# EAGLE library part LF411 (library EW_IC_Op_Amps)
Operational Amplifier Wideband, Low Distortion
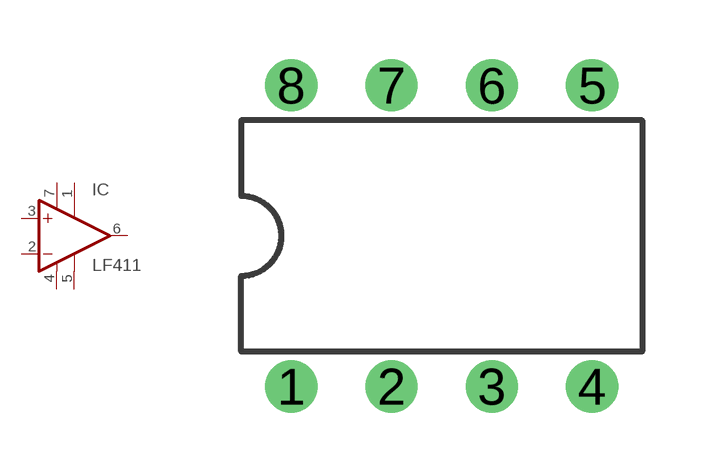
[diagram p36: symbol with the pads of DIL08; footprint DIL08]

Designator prefix IC

## LF411P (DIGI-KEY: 296-26079-5-ND; FARNELL: 3004597; MF: LF411CP; MPN: LF411CP)  [DIL08]
1  +VS2  pwr
2  -IN  in
3  +IN  in
4  -VS1  pwr
5  -VS2  pwr
6  OUT  out
7  +VS1  pwr

## Footprint DIL08 (pad centres in mm)
Dual In Line Package
drill 0.813 pad 1.27: 1 -3.81,-3.81; 2 -1.27,-3.81; 3 1.27,-3.81; 4 3.81,-3.81; 5 3.81,3.81; 6 1.27,3.81; 7 -1.27,3.81; 8 -3.81,3.81